# Altium footprint library zetex.PCBLIB: 20 footprints (part 2 of 2)
Each footprint in its own frame and in the unit in brackets; x right, y up, seen from the top. Pads: shape width x height; smd on the part's side, far side on the other; paste and mask are expansions set on the pad; w line width, h text height; cw(c..) or ccw(c..) is an arc to the next point about the centre after c.
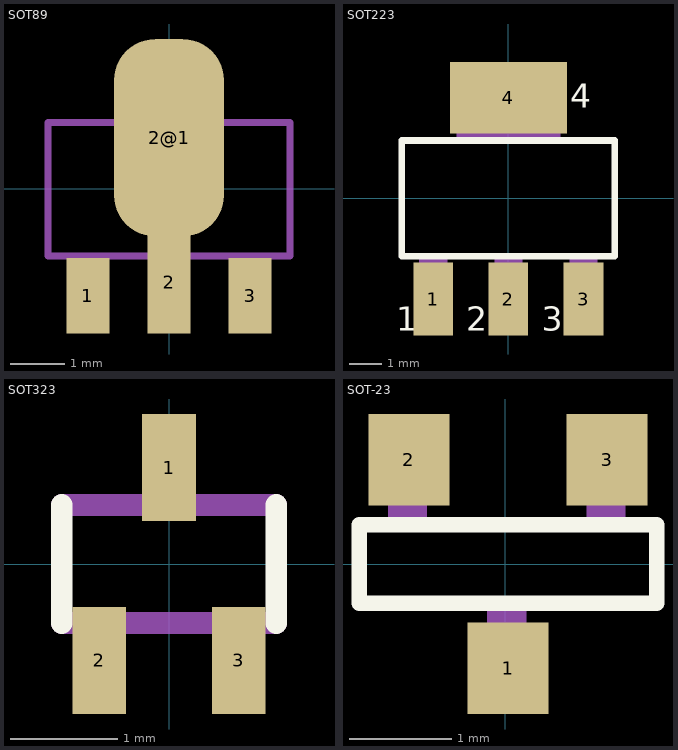
[diagram p1: the footprints below, top view; thin cyan lines are the x and y axes]

## SOT89 [mil]
pads (4):
  rect 31.5x55.12 smd: 1(-59.02,-77.99) 3(59.02,-77.99)
  rect 31.5x74.8 smd: 2(0,-67.99)
  rrect75% 80x143.7 smd: 2@1(0,37.01)
Top Paste:
  rectangle: -15.75,-105.51 15.75,-50.39
Top Solder:
  rectangle: -19.69,-109.45 19.69,-46.46
Mechanical 16:
  rectangle: -68,-83 -50,-50
  rectangle: 50,-83 68,-50
  rectangle: -11,-83 11,-50
  region: 0,0 10,0 10,10 0,10
  lines w5: -87.99,-49.02 87.99,-49.02 87.99,47.99 -87.99,47.99 -87.99,-49.02
  lines w7.87: -31,51 31,51 31,62 14,79 -14,79 -31,62 -31,51

## SOT223 [mil]
pads (4):
  rect 48x88 smd: 1(-91,-122) 2(0,-122) 3(91,-122)
  rect 141.73x86.61 smd: 4(0,122.01)
Top Overlay:
  lines w8: -129,-70 129,-70 129,70 -129,70 -129,-70
  text "3" at 40.19,-170 h49.6
  text "4" at 75,100 h49.6
  text "1" at -135.93,-170 h49.6
  text "2" at -50.81,-170.37 h49.6
Mechanical 16:
  rectangle: -63,71 63,144
  rectangle: -17,-144 17,-71
  rectangle: -108,-144 -74,-71
  rectangle: 74,-144 108,-71
  rectangle: -63,71 63,144
  rectangle: -17,-144 17,-71
  rectangle: -108,-144 -74,-71
  rectangle: 74,-144 108,-71

## SOT323 [mm]
pads (3):
  rect 0.5x1 smd: 1(0,0.9) 2(-0.65,-0.9) 3(0.65,-0.9)
Top Overlay:
  lines w0.203: -1,-0.55 -1,0.55 ; 1,-0.55 1,0.55
Mechanical 16:
  rectangle: -0.15,0.65 0.15,1.2
  rectangle: -0.8,-1.2 -0.5,-0.65
  rectangle: 0.5,-1.2 0.8,-0.65
  lines w0.203: -1,-0.55 1,-0.55 ; -1,0.55 1,0.55

## SOT-23 [mil]
pads (3):
  rect 31x35 smd: 1(1,-40) 2(-37,40) 3(39,40)
Top Overlay:
  lines w6: -56,-15 58,-15 58,15 -56,15 -56,-15
Mechanical 16:
  rectangle: 31,17 46,37
  rectangle: -45,17 -30,37
  rectangle: -7,-37 8,-17